# Altium integrated library ON Semi Signal Management Digital POTs.IntLib: 284 symbols (part 5 of 11)
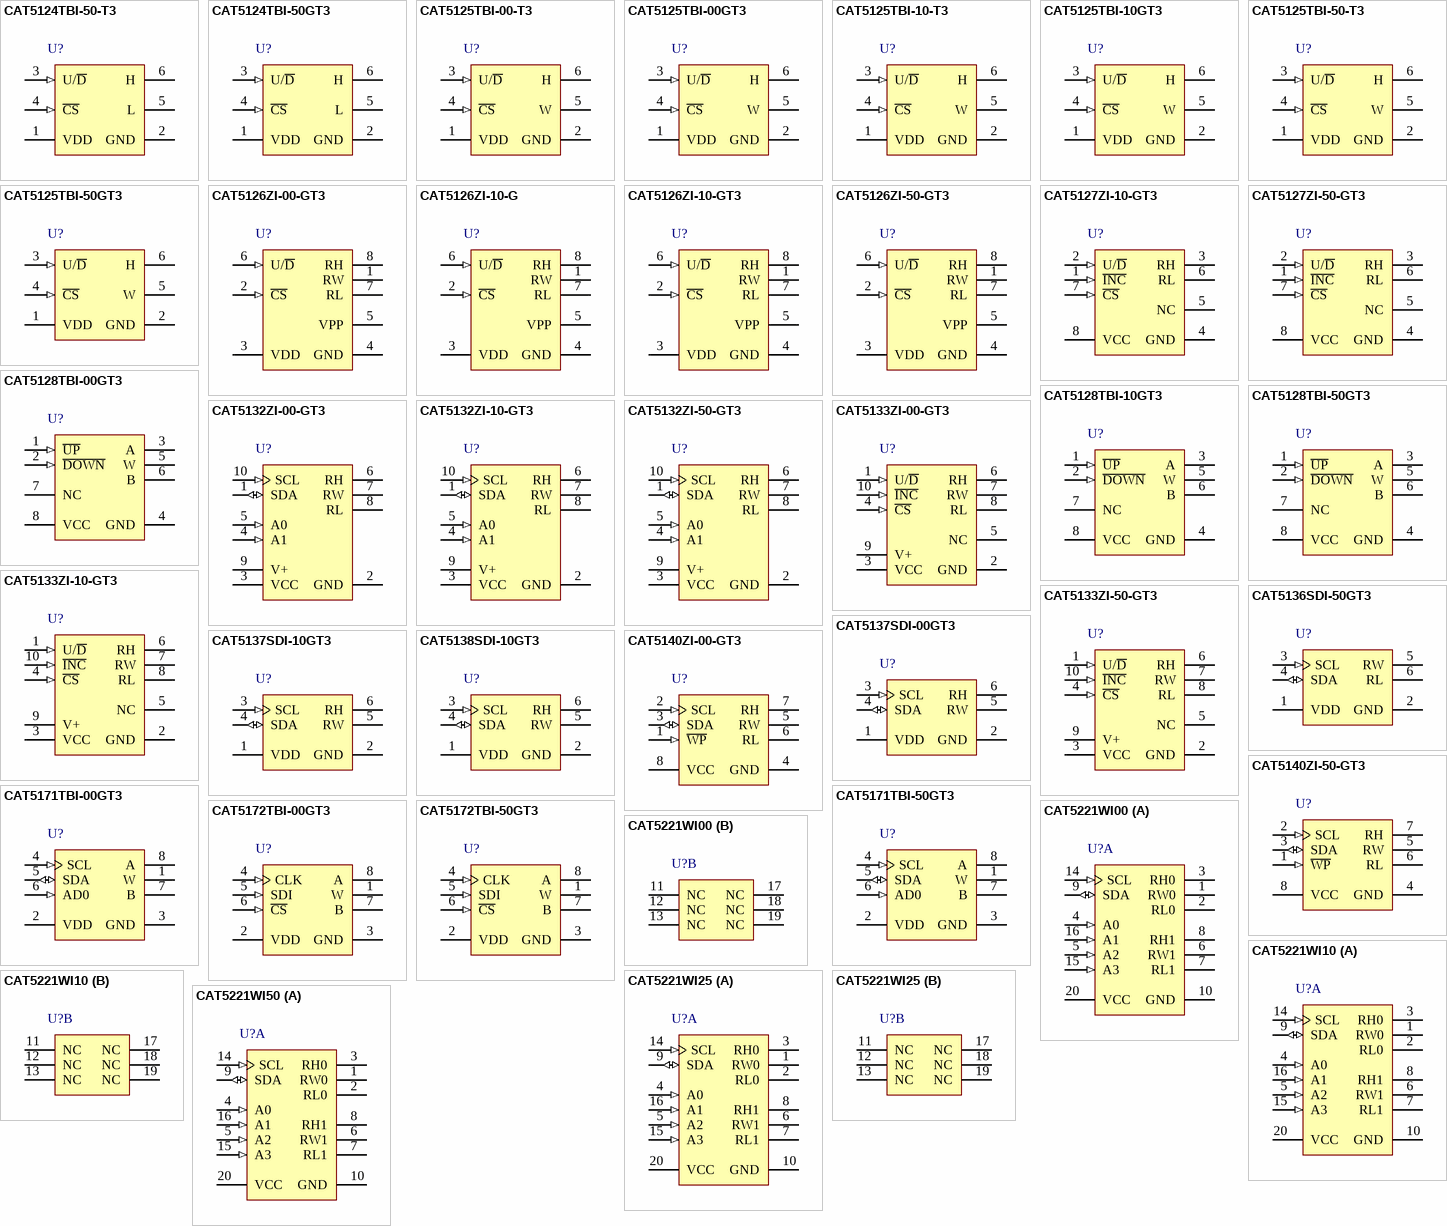
[diagram p13: symbols CAT5124TBI-50-T3 to CAT5221WI50]

## CAT5126ZI-10-G
designator U?
One-Time Digital 32 Tap Potentiometer (POT), -40 to 85 degC, 8-Pin MSOP, Pb-Free, Tube; Manufacturer: On Semiconductor; PartNumber: CAT5126ZI-10-G; # of Pots: 1; # of Taps: 32; Control Interface: Up/Down; VDD Max (V): 5.5; DatasheetVersion: Rev. 4; PackageVersion: Rev. O, 12/2008; PackageReference: MSOP-8-846AD-01_O; PackageDescription: 8-Pin Small Outline Package, Body 3 x 3 mm, Pitch 0.65 mm; Supplier 1: Mouser; Supplier Part Number 1: 698-CAT5126ZI-10-G; Packing: Tube; RoHS: TRUE; Type: Potentiometer; Mounting Technology: Surface Mount; Code_JEDEC: MO-187; ComponentLink1Description: Manufacturer URL; ComponentLink1URL: http://www.onsemi.com/; ComponentLink2Description: Datasheet; ComponentLink2URL: http://www.onsemi.com/pub_link/Collateral/CAT5126-D.PDF; ComponentLink3Description: Package Specification; ComponentLink3URL: http://www.onsemi.com/pub_link/Collateral/846AD.PDF
footprint ONSC-MSOP-8-846AD-01_N (SOP, 8-Leads, Body 3.1x3.1mm, Pitch 0.65mm, IPC Medium Density)
footprint ONSC-MSOP-8-846AD-01_L (SOP, 8-Leads, Body 3.1x3.1mm, Pitch 0.65mm, IPC High Density)
footprint ONSC-MSOP-8-846AD-01_M (SOP, 8-Leads, Body 3.1x3.1mm, Pitch 0.65mm, IPC Low Density)
pins: 1 RW "Wiper Connection", 2 ~{CS} (in) "Chip-Select Input. A high-to-low C\S\ transition determines the mode: increment if U/D\ is high, or decrement if U/D\ is low. C\S\ is also used for one-time programming (see the One-Time Programming section).", 3 VDD (power) "Power?Supply Voltage", 4 GND (power) "Ground", 5 VPP "Programming Voltage for One-Time Programming. Connect VPP to 10 V supply when one-time programming the device. For normal operation, connect to ground or let float.", 6 U/~{D} (in) "Up/Down Control Input. With C\S\ low, a low-to-high transition increments or decrements the wiper position.", 7 RL "Low Terminal of Resistor", 8 RH "High Terminal of Resistor"

## CAT5126ZI-10-GT3
designator U?
One-Time Digital 32 Tap Potentiometer (POT), -40 to 85 degC, 8-Pin MSOP, Pb-Free, Tape and Reel; Manufacturer: On Semiconductor; PartNumber: CAT5126ZI-10-GT3; # of Pots: 1; # of Taps: 32; Control Interface: Up/Down; VDD Max (V): 5.5; DatasheetVersion: Rev. 4; PackageVersion: Rev. O, 12/2008; PackageReference: MSOP-8-846AD-01_O; PackageDescription: 8-Pin Small Outline Package, Body 3 x 3 mm, Pitch 0.65 mm; Supplier 1: Digi-Key; Supplier Part Number 1: CAT5126ZI-10-GT3-ND; Supplier 2: Mouser; Supplier Part Number 2: 698-CAT5126ZI-10-GT3; Packing: Tape and Reel; RoHS: TRUE; Type: Potentiometer; Mounting Technology: Surface Mount; Code_JEDEC: MO-187; ComponentLink1Description: Manufacturer URL; ComponentLink1URL: http://www.onsemi.com/; ComponentLink2Description: Datasheet; ComponentLink2URL: http://www.onsemi.com/pub_link/Collateral/CAT5126-D.PDF; ComponentLink3Description: Package Specification; ComponentLink3URL: http://www.onsemi.com/pub_link/Collateral/846AD.PDF
footprint ONSC-MSOP-8-846AD-01_N (SOP, 8-Leads, Body 3.1x3.1mm, Pitch 0.65mm, IPC Medium Density)
footprint ONSC-MSOP-8-846AD-01_L (SOP, 8-Leads, Body 3.1x3.1mm, Pitch 0.65mm, IPC High Density)
footprint ONSC-MSOP-8-846AD-01_M (SOP, 8-Leads, Body 3.1x3.1mm, Pitch 0.65mm, IPC Low Density)
pins: 1 RW "Wiper Connection", 2 ~{CS} (in) "Chip-Select Input. A high-to-low C\S\ transition determines the mode: increment if U/D\ is high, or decrement if U/D\ is low. C\S\ is also used for one-time programming (see the One-Time Programming section).", 3 VDD (power) "Power?Supply Voltage", 4 GND (power) "Ground", 5 VPP "Programming Voltage for One-Time Programming. Connect VPP to 10 V supply when one-time programming the device. For normal operation, connect to ground or let float.", 6 U/~{D} (in) "Up/Down Control Input. With C\S\ low, a low-to-high transition increments or decrements the wiper position.", 7 RL "Low Terminal of Resistor", 8 RH "High Terminal of Resistor"

## CAT5126ZI-50-GT3
designator U?
One-Time Digital 32 Tap Potentiometer (POT), -40 to 85 degC, 8-Pin MSOP, Pb-Free, Tape and Reel; Manufacturer: On Semiconductor; PartNumber: CAT5126ZI-50-GT3; # of Pots: 1; # of Taps: 32; Control Interface: Up/Down; VDD Max (V): 5.5; DatasheetVersion: Rev. 4; PackageVersion: Rev. O, 12/2008; PackageReference: MSOP-8-846AD-01_O; PackageDescription: 8-Pin Small Outline Package, Body 3 x 3 mm, Pitch 0.65 mm; Supplier 1: Digi-Key; Supplier Part Number 1: CAT5126ZI-50-GT3-ND; Supplier 2: Mouser; Supplier Part Number 2: 698-CAT5126ZI-50-G; Packing: Tape and Reel; RoHS: TRUE; Type: Potentiometer; Mounting Technology: Surface Mount; Code_JEDEC: MO-187; ComponentLink1Description: Manufacturer URL; ComponentLink1URL: http://www.onsemi.com/; ComponentLink2Description: Datasheet; ComponentLink2URL: http://www.onsemi.com/pub_link/Collateral/CAT5126-D.PDF; ComponentLink3Description: Package Specification; ComponentLink3URL: http://www.onsemi.com/pub_link/Collateral/846AD.PDF
footprint ONSC-MSOP-8-846AD-01_N (SOP, 8-Leads, Body 3.1x3.1mm, Pitch 0.65mm, IPC Medium Density)
footprint ONSC-MSOP-8-846AD-01_L (SOP, 8-Leads, Body 3.1x3.1mm, Pitch 0.65mm, IPC High Density)
footprint ONSC-MSOP-8-846AD-01_M (SOP, 8-Leads, Body 3.1x3.1mm, Pitch 0.65mm, IPC Low Density)
pins: 1 RW "Wiper Connection", 2 ~{CS} (in) "Chip-Select Input. A high-to-low C\S\ transition determines the mode: increment if U/D\ is high, or decrement if U/D\ is low. C\S\ is also used for one-time programming (see the One-Time Programming section).", 3 VDD (power) "Power?Supply Voltage", 4 GND (power) "Ground", 5 VPP "Programming Voltage for One-Time Programming. Connect VPP to 10 V supply when one-time programming the device. For normal operation, connect to ground or let float.", 6 U/~{D} (in) "Up/Down Control Input. With C\S\ low, a low-to-high transition increments or decrements the wiper position.", 7 RL "Low Terminal of Resistor", 8 RH "High Terminal of Resistor"

## CAT5127ZI-10-GT3
designator U?
32 Tap Digital Potentiometer (POT), -40 to 85 degC, 8-Pin MSOP, Pb-Free, Tape and Reel; Manufacturer: On Semiconductor; PartNumber: CAT5127ZI-10-GT3; # of Pots: 1; # of Taps: 32; Control Interface: Up/Down; VDD Max (V): 5.5; DatasheetVersion: Rev. 7; PackageVersion: Rev. O, 12/2008; PackageReference: MSOP-8-846AD-01_O; PackageDescription: 8-Pin Small Outline Package, Body 3 x 3 mm, Pitch 0.65 mm; Supplier 1: Digi-Key; Supplier Part Number 1: CAT5127ZI-10-GT3-ND; Supplier 2: Newark; Supplier Part Number 2: 08R5289; Supplier 3: Mouser; Supplier Part Number 3: 698-CAT5127ZI-10-G; Packing: Tape and Reel; RoHS: TRUE; Type: Potentiometer; Mounting Technology: Surface Mount; Code_JEDEC: MO-187; ComponentLink1Description: Manufacturer URL; ComponentLink1URL: http://www.onsemi.com/; ComponentLink2Description: Datasheet; ComponentLink2URL: http://www.onsemi.com/pub_link/Collateral/CAT5127-D.PDF; ComponentLink3Description: Package Specification; ComponentLink3URL: http://www.onsemi.com/pub_link/Collateral/846AD.PDF
footprint ONSC-MSOP-8-846AD-01_N (SOP, 8-Leads, Body 3.1x3.1mm, Pitch 0.65mm, IPC Medium Density)
footprint ONSC-MSOP-8-846AD-01_L (SOP, 8-Leads, Body 3.1x3.1mm, Pitch 0.65mm, IPC High Density)
footprint ONSC-MSOP-8-846AD-01_M (SOP, 8-Leads, Body 3.1x3.1mm, Pitch 0.65mm, IPC Low Density)
pins: 1 ~{INC} (in) "Increment Control", 2 U/~{D} (in) "Up/Down Control", 3 RH "Potentiometer High Terminal", 4 GND (power) "Ground", 5 NC "No Connect", 6 RL "Potentiometer Low Terminal", 7 ~{CS} (in) "Chip Select", 8 VCC (power) "Supply Voltage"

## CAT5127ZI-50-GT3
designator U?
32 Tap Digital Potentiometer (POT), -40 to 85 degC, 8-Pin MSOP, Pb-Free, Tape and Reel; Manufacturer: On Semiconductor; PartNumber: CAT5127ZI-50-GT3; # of Pots: 1; # of Taps: 32; Control Interface: Up/Down; VDD Max (V): 5.5; DatasheetVersion: Rev. 7; PackageVersion: Rev. O, 12/2008; PackageReference: MSOP-8-846AD-01_O; PackageDescription: 8-Pin Small Outline Package, Body 3 x 3 mm, Pitch 0.65 mm; Supplier 1: Digi-Key; Supplier Part Number 1: CAT5127ZI-50-GT3-ND; Supplier 2: Mouser; Supplier Part Number 2: 863-CAT5127ZI-50-GT3; Packing: Tape and Reel; RoHS: TRUE; Type: Potentiometer; Mounting Technology: Surface Mount; Code_JEDEC: MO-187; ComponentLink1Description: Manufacturer URL; ComponentLink1URL: http://www.onsemi.com/; ComponentLink2Description: Datasheet; ComponentLink2URL: http://www.onsemi.com/pub_link/Collateral/CAT5127-D.PDF; ComponentLink3Description: Package Specification; ComponentLink3URL: http://www.onsemi.com/pub_link/Collateral/846AD.PDF
footprint ONSC-MSOP-8-846AD-01_N (SOP, 8-Leads, Body 3.1x3.1mm, Pitch 0.65mm, IPC Medium Density)
footprint ONSC-MSOP-8-846AD-01_L (SOP, 8-Leads, Body 3.1x3.1mm, Pitch 0.65mm, IPC High Density)
footprint ONSC-MSOP-8-846AD-01_M (SOP, 8-Leads, Body 3.1x3.1mm, Pitch 0.65mm, IPC Low Density)
pins: 1 ~{INC} (in) "Increment Control", 2 U/~{D} (in) "Up/Down Control", 3 RH "Potentiometer High Terminal", 4 GND (power) "Ground", 5 NC "No Connect", 6 RL "Potentiometer Low Terminal", 7 ~{CS} (in) "Chip Select", 8 VCC (power) "Supply Voltage"

## CAT5128TBI-00GT3
designator U?
32 Tap Digital Up / Down Control Potentiometer (POT), -40 to 85 degC, 8-Pin SOT23, Pb-Free, Tape and Reel; Manufacturer: On Semiconductor; PartNumber: CAT5128TBI-00GT3; # of Pots: 1; # of Taps: 32; VDD Max (V): 5.5; DatasheetVersion: Rev. 4; PackageVersion: Rev. A, 03/2009; PackageReference: SOT23-8-527AK-01; PackageDescription: 8-Pin Small Outline Transistor, Body 2.9 x 1.6 mm, Pitch 0.65 mm; Supplier 1: Digi-Key; Supplier Part Number 1: CAT5128TBI-00GT3-ND; Supplier 2: Mouser; Supplier Part Number 2: 863-CAT5128TBI-00GT3; Control Interface: Up/Down; Packing: Tape and Reel; RoHS: TRUE; Type: Potentiometer; Mounting Technology: Surface Mount; Code_JEDEC: MO-178; ComponentLink1Description: Manufacturer URL; ComponentLink1URL: http://www.onsemi.com/; ComponentLink2Description: Datasheet; ComponentLink2URL: http://www.onsemi.com/pub_link/Collateral/CAT5128-D.PDF; ComponentLink3Description: Package Specification; ComponentLink3URL: http://www.onsemi.com/pub_link/Collateral/527AK.PDF
footprint ONSC-SOT23-8-527AK-01_N (SOT23, 8-Leads, Body 2.9x1.6mm, Pitch 0.65mm, IPC Medium Density)
footprint ONSC-SOT23-8-527AK-01_L (SOT23, 8-Leads, Body 2.9x1.6mm, Pitch 0.65mm, IPC High Density)
footprint ONSC-SOT23-8-527AK-01_M (SOT23, 8-Leads, Body 2.9x1.6mm, Pitch 0.65mm, IPC Low Density)
pins: 1 ~{UP} (in) "Step-Up Control", 2 ~{DOWN} (in) "Step-Down Control", 3 A "Potentiometer High Terminal", 4 GND (power) "Ground", 5 W "Wiper Terminal", 6 B "Potentiometer Low Terminal", 7 NC "Not Connected", 8 VCC (power) "Supply Voltage"

## CAT5128TBI-10GT3
designator U?
32 Tap Digital Up / Down Control Potentiometer (POT), -40 to 85 degC, 8-Pin SOT23, Pb-Free, Tape and Reel; Manufacturer: On Semiconductor; PartNumber: CAT5128TBI-10GT3; # of Pots: 1; # of Taps: 32; VDD Max (V): 5.5; DatasheetVersion: Rev. 4; PackageVersion: Rev. A, 03/2009; PackageReference: SOT23-8-527AK-01; PackageDescription: 8-Pin Small Outline Transistor, Body 2.9 x 1.6 mm, Pitch 0.65 mm; Supplier 1: Digi-Key; Supplier Part Number 1: CAT5128TBI-10GT3CT-ND; Supplier 2: Digi-Key; Supplier Part Number 2: CAT5128TBI-10GT3DKR-ND; Supplier 3: Mouser; Supplier Part Number 3: 698-CAT5128TBI-10GT3; Control Interface: Up/Down; Packing: Tape and Reel; RoHS: TRUE; Type: Potentiometer; Mounting Technology: Surface Mount; Code_JEDEC: MO-178; ComponentLink1Description: Manufacturer URL; ComponentLink1URL: http://www.onsemi.com/; ComponentLink2Description: Datasheet; ComponentLink2URL: http://www.onsemi.com/pub_link/Collateral/CAT5128-D.PDF; ComponentLink3Description: Package Specification; ComponentLink3URL: http://www.onsemi.com/pub_link/Collateral/527AK.PDF
footprint ONSC-SOT23-8-527AK-01_N (SOT23, 8-Leads, Body 2.9x1.6mm, Pitch 0.65mm, IPC Medium Density)
footprint ONSC-SOT23-8-527AK-01_L (SOT23, 8-Leads, Body 2.9x1.6mm, Pitch 0.65mm, IPC High Density)
footprint ONSC-SOT23-8-527AK-01_M (SOT23, 8-Leads, Body 2.9x1.6mm, Pitch 0.65mm, IPC Low Density)
pins: 1 ~{UP} (in) "Step-Up Control", 2 ~{DOWN} (in) "Step-Down Control", 3 A "Potentiometer High Terminal", 4 GND (power) "Ground", 5 W "Wiper Terminal", 6 B "Potentiometer Low Terminal", 7 NC "Not Connected", 8 VCC (power) "Supply Voltage"

## CAT5128TBI-50GT3
designator U?
32 Tap Digital Up / Down Control Potentiometer (POT), -40 to 85 degC, 8-Pin SOT23, Pb-Free, Tape and Reel; Manufacturer: On Semiconductor; PartNumber: CAT5128TBI-50GT3; # of Pots: 1; # of Taps: 32; VDD Max (V): 5.5; DatasheetVersion: Rev. 4; PackageVersion: Rev. A, 03/2009; PackageReference: SOT23-8-527AK-01; PackageDescription: 8-Pin Small Outline Transistor, Body 2.9 x 1.6 mm, Pitch 0.65 mm; Supplier 1: Digi-Key; Supplier Part Number 1: CAT5128TBI-50GT3-ND; Supplier 2: Mouser; Supplier Part Number 2: 863-CAT5128TBI-50GT3; Control Interface: Up/Down; Packing: Tape and Reel; RoHS: TRUE; Type: Potentiometer; Mounting Technology: Surface Mount; Code_JEDEC: MO-178; ComponentLink1Description: Manufacturer URL; ComponentLink1URL: http://www.onsemi.com/; ComponentLink2Description: Datasheet; ComponentLink2URL: http://www.onsemi.com/pub_link/Collateral/CAT5128-D.PDF; ComponentLink3Description: Package Specification; ComponentLink3URL: http://www.onsemi.com/pub_link/Collateral/527AK.PDF
footprint ONSC-SOT23-8-527AK-01_N (SOT23, 8-Leads, Body 2.9x1.6mm, Pitch 0.65mm, IPC Medium Density)
footprint ONSC-SOT23-8-527AK-01_L (SOT23, 8-Leads, Body 2.9x1.6mm, Pitch 0.65mm, IPC High Density)
footprint ONSC-SOT23-8-527AK-01_M (SOT23, 8-Leads, Body 2.9x1.6mm, Pitch 0.65mm, IPC Low Density)
pins: 1 ~{UP} (in) "Step-Up Control", 2 ~{DOWN} (in) "Step-Down Control", 3 A "Potentiometer High Terminal", 4 GND (power) "Ground", 5 W "Wiper Terminal", 6 B "Potentiometer Low Terminal", 7 NC "Not Connected", 8 VCC (power) "Supply Voltage"

## CAT5132ZI-00-GT3
designator U?
16 Volt Digital Potentiometer (POT) with 128 Tap and I2C Interface, -40 to 85 degC, 10-Pin MSOP, Pb-Free, Tape and Reel; Manufacturer: On Semiconductor; PartNumber: CAT5132ZI-00-GT3; # of Pots: 1; # of Taps: 128; VDD Max (V): 5.5; DatasheetVersion: Rev. 7; PackageVersion: Rev. O, 12/2008; PackageReference: MSOP-10-846AE-01; PackageDescription: 10-Pin Small Outline Package, Body 3 x 3 mm, Pitch 0.5 mm; Supplier 1: Digi-Key; Supplier Part Number 1: CAT5132ZI-00-GT3TR-ND; Supplier 2: Digi-Key; Supplier Part Number 2: CAT5132ZI-00-GT3CT-ND; Supplier 3: Digi-Key; Supplier Part Number 3: CAT5132ZI-00-GT3DKR-ND; Supplier 4: Newark; Supplier Part Number 4: 08R5291; Supplier 5: Mouser; Supplier Part Number 5: 698-CAT5132ZI-00-GT3; Control Interface: I2C; Packing: Tape and Reel; RoHS: TRUE; Type: Potentiometer; Mounting Technology: Surface Mount; Code_JEDEC: MO-187; ComponentLink1Description: Manufacturer URL; ComponentLink1URL: http://www.onsemi.com/; ComponentLink2Description: Datasheet; ComponentLink2URL: http://www.onsemi.com/pub_link/Collateral/CAT5132-D.PDF; ComponentLink3Description: Package Specification; ComponentLink3URL: http://www.onsemi.com/pub_link/Collateral/846AE.PDF
footprint ONSC-MSOP-10-846AE-01_N (SOP, 10-Leads, Body 3.1x3.1mm, Pitch 0.5mm, IPC Medium Density)
footprint ONSC-MSOP-10-846AE-01_L (SOP, 10-Leads, Body 3.1x3.1mm, Pitch 0.5mm, IPC High Density)
footprint ONSC-MSOP-10-846AE-01_M (SOP, 10-Leads, Body 3.1x3.1mm, Pitch 0.5mm, IPC Low Density)
pins: 1 SDA (io) "Serial Data Input/Output ? Bidirectional Serial Data pin used to transfer data into and out of the CAT5132. This is an Open-Drain I/O and can be wire OR¡¯d with other Open-Drain (or Open Collector) I/Os.", 2 GND (power) "Ground", 3 VCC (power) "Digital Supply Voltage (2.7 V to 5.5 V)", 4 A1 (in) "Address Select Input to select slave address for I2C bus.", 5 A0 (in) "Address Select Input to select slave address for I2C bus.", 6 RH "High Reference Terminal for the potentiometer", 7 RW "Wiper Terminal for the potentiometer", 8 RL "Low Reference Terminal for the potentiometer", 9 V+ (power) "Analog Supply Voltage for the potentiometer (+8.0 V to 16.0 V)", 10 SCL (in) "Serial Bus Clock input for the I2C Serial Bus. This clock is used to clock all data transfers into and out of the CAT5132"

## CAT5132ZI-10-GT3
designator U?
16 Volt Digital Potentiometer (POT) with 128 Tap and I2C Interface, -40 to 85 degC, 10-Pin MSOP, Pb-Free, Tape and Reel; Manufacturer: On Semiconductor; PartNumber: CAT5132ZI-10-GT3; # of Pots: 1; # of Taps: 128; VDD Max (V): 5.5; DatasheetVersion: Rev. 7; PackageVersion: Rev. O, 12/2008; PackageReference: MSOP-10-846AE-01; PackageDescription: 10-Pin Small Outline Package, Body 3 x 3 mm, Pitch 0.5 mm; Supplier 1: Digi-Key; Supplier Part Number 1: CAT5132ZI-10-GT3-ND; Supplier 2: Farnell; Supplier Part Number 2: 1772382; Supplier 3: Newark; Supplier Part Number 3: 06R1234; Supplier 4: Mouser; Supplier Part Number 4: 698-CAT5132ZI-10-GT3; Control Interface: I2C; Packing: Tape and Reel; RoHS: TRUE; Type: Potentiometer; Mounting Technology: Surface Mount; Code_JEDEC: MO-187; ComponentLink1Description: Manufacturer URL; ComponentLink1URL: http://www.onsemi.com/; ComponentLink2Description: Datasheet; ComponentLink2URL: http://www.onsemi.com/pub_link/Collateral/CAT5132-D.PDF; ComponentLink3Description: Package Specification; ComponentLink3URL: http://www.onsemi.com/pub_link/Collateral/846AE.PDF
footprint ONSC-MSOP-10-846AE-01_N (SOP, 10-Leads, Body 3.1x3.1mm, Pitch 0.5mm, IPC Medium Density)
footprint ONSC-MSOP-10-846AE-01_L (SOP, 10-Leads, Body 3.1x3.1mm, Pitch 0.5mm, IPC High Density)
footprint ONSC-MSOP-10-846AE-01_M (SOP, 10-Leads, Body 3.1x3.1mm, Pitch 0.5mm, IPC Low Density)
pins: 1 SDA (io) "Serial Data Input/Output ? Bidirectional Serial Data pin used to transfer data into and out of the CAT5132. This is an Open-Drain I/O and can be wire OR¡¯d with other Open-Drain (or Open Collector) I/Os.", 2 GND (power) "Ground", 3 VCC (power) "Digital Supply Voltage (2.7 V to 5.5 V)", 4 A1 (in) "Address Select Input to select slave address for I2C bus.", 5 A0 (in) "Address Select Input to select slave address for I2C bus.", 6 RH "High Reference Terminal for the potentiometer", 7 RW "Wiper Terminal for the potentiometer", 8 RL "Low Reference Terminal for the potentiometer", 9 V+ (power) "Analog Supply Voltage for the potentiometer (+8.0 V to 16.0 V)", 10 SCL (in) "Serial Bus Clock input for the I2C Serial Bus. This clock is used to clock all data transfers into and out of the CAT5132"

## CAT5132ZI-50-GT3
designator U?
16 Volt Digital Potentiometer (POT) with 128 Tap and I2C Interface, -40 to 85 degC, 10-Pin MSOP, Pb-Free, Tape and Reel; Manufacturer: On Semiconductor; PartNumber: CAT5132ZI-50-GT3; # of Pots: 1; # of Taps: 128; VDD Max (V): 5.5; DatasheetVersion: Rev. 7; PackageVersion: Rev. O, 12/2008; PackageReference: MSOP-10-846AE-01; PackageDescription: 10-Pin Small Outline Package, Body 3 x 3 mm, Pitch 0.5 mm; Supplier 1: Digi-Key; Supplier Part Number 1: CAT5132ZI-50-GT3-ND; Supplier 2: Mouser; Supplier Part Number 2: 698-CAT5132ZI-50-GT3; Control Interface: I2C; Packing: Tape and Reel; RoHS: TRUE; Type: Potentiometer; Mounting Technology: Surface Mount; Code_JEDEC: MO-187; ComponentLink1Description: Manufacturer URL; ComponentLink1URL: http://www.onsemi.com/; ComponentLink2Description: Datasheet; ComponentLink2URL: http://www.onsemi.com/pub_link/Collateral/CAT5132-D.PDF; ComponentLink3Description: Package Specification; ComponentLink3URL: http://www.onsemi.com/pub_link/Collateral/846AE.PDF
footprint ONSC-MSOP-10-846AE-01_N (SOP, 10-Leads, Body 3.1x3.1mm, Pitch 0.5mm, IPC Medium Density)
footprint ONSC-MSOP-10-846AE-01_L (SOP, 10-Leads, Body 3.1x3.1mm, Pitch 0.5mm, IPC High Density)
footprint ONSC-MSOP-10-846AE-01_M (SOP, 10-Leads, Body 3.1x3.1mm, Pitch 0.5mm, IPC Low Density)
pins: 1 SDA (io) "Serial Data Input/Output ? Bidirectional Serial Data pin used to transfer data into and out of the CAT5132. This is an Open-Drain I/O and can be wire OR¡¯d with other Open-Drain (or Open Collector) I/Os.", 2 GND (power) "Ground", 3 VCC (power) "Digital Supply Voltage (2.7 V to 5.5 V)", 4 A1 (in) "Address Select Input to select slave address for I2C bus.", 5 A0 (in) "Address Select Input to select slave address for I2C bus.", 6 RH "High Reference Terminal for the potentiometer", 7 RW "Wiper Terminal for the potentiometer", 8 RL "Low Reference Terminal for the potentiometer", 9 V+ (power) "Analog Supply Voltage for the potentiometer (+8.0 V to 16.0 V)", 10 SCL (in) "Serial Bus Clock input for the I2C Serial Bus. This clock is used to clock all data transfers into and out of the CAT5132"

## CAT5133ZI-00-GT3
designator U?
16 Volt Digital Potentiometer (POT) with 128 Tap and an Increment Decrement Interface, -40 to 85 degC, 10-Pin MSOP, Pb-Free, Tape and Reel; Manufacturer: On Semiconductor; PartNumber: CAT5133ZI-00-GT3; # of Pots: 1; # of Taps: 128; Control Interface: Up/Down; VDD Max (V): 5.5; DatasheetVersion: Rev. 5; PackageVersion: Rev. O, 12/2008; PackageReference: MSOP-10-846AE-01; PackageDescription: 10-Pin Small Outline Package, Body 3 x 3 mm, Pitch 0.5 mm; Supplier 1: Mouser; Supplier Part Number 1: N/A; Packing: Tape and Reel; RoHS: TRUE; Type: Potentiometer; Mounting Technology: Surface Mount; Code_JEDEC: MO-187; ComponentLink1Description: Manufacturer URL; ComponentLink1URL: http://www.onsemi.com/; ComponentLink2Description: Datasheet; ComponentLink2URL: http://www.onsemi.com/pub_link/Collateral/CAT5133-D.PDF; ComponentLink3Description: Package Specification; ComponentLink3URL: http://www.onsemi.com/pub_link/Collateral/846AE.PDF
footprint ONSC-MSOP-10-846AE-01_N (SOP, 10-Leads, Body 3.1x3.1mm, Pitch 0.5mm, IPC Medium Density)
footprint ONSC-MSOP-10-846AE-01_L (SOP, 10-Leads, Body 3.1x3.1mm, Pitch 0.5mm, IPC High Density)
footprint ONSC-MSOP-10-846AE-01_M (SOP, 10-Leads, Body 3.1x3.1mm, Pitch 0.5mm, IPC Low Density)
pins: 1 U/~{D} (in) "Up/Down Data Input - Determines the direction of movement of the wiper", 2 GND (power) "Ground", 3 VCC (power) "Logic Supply Voltage (2.7 V to 5.5 V)", 4 ~{CS} (in) "Chip Select ? The chip is selected when the input is low.", 5 NC "No Connect", 6 RH "High Reference Terminal for the Potentiometer", 7 RW "Wiper Terminal for the Potentiometer", 8 RL "Low Reference Terminal for the Potentiometer", 9 V+ (power) "Analog Bias Voltage Input (+8.0 V to +16.0 V)", 10 ~{INC} (in) "Increment Input - Moves the wiper in the direction determined by the Up/Down input on each negative edge"

## CAT5133ZI-10-GT3
designator U?
16 Volt Digital Potentiometer (POT) with 128 Tap and an Increment Decrement Interface, -40 to 85 degC, 10-Pin MSOP, Pb-Free, Tape and Reel; Manufacturer: On Semiconductor; PartNumber: CAT5133ZI-10-GT3; # of Pots: 1; # of Taps: 128; Control Interface: Up/Down; VDD Max (V): 5.5; DatasheetVersion: Rev. 5; PackageVersion: Rev. O, 12/2008; PackageReference: MSOP-10-846AE-01; PackageDescription: 10-Pin Small Outline Package, Body 3 x 3 mm, Pitch 0.5 mm; Supplier 1: Digi-Key; Supplier Part Number 1: CAT5133ZI-10-GT3-ND; Supplier 2: Newark; Supplier Part Number 2: 06R1238; Supplier 3: Mouser; Supplier Part Number 3: 863-CAT5133ZI-10-GT3; Packing: Tape and Reel; RoHS: TRUE; Type: Potentiometer; Mounting Technology: Surface Mount; Code_JEDEC: MO-187; ComponentLink1Description: Manufacturer URL; ComponentLink1URL: http://www.onsemi.com/; ComponentLink2Description: Datasheet; ComponentLink2URL: http://www.onsemi.com/pub_link/Collateral/CAT5133-D.PDF; ComponentLink3Description: Package Specification; ComponentLink3URL: http://www.onsemi.com/pub_link/Collateral/846AE.PDF
footprint ONSC-MSOP-10-846AE-01_N (SOP, 10-Leads, Body 3.1x3.1mm, Pitch 0.5mm, IPC Medium Density)
footprint ONSC-MSOP-10-846AE-01_L (SOP, 10-Leads, Body 3.1x3.1mm, Pitch 0.5mm, IPC High Density)
footprint ONSC-MSOP-10-846AE-01_M (SOP, 10-Leads, Body 3.1x3.1mm, Pitch 0.5mm, IPC Low Density)
pins: 1 U/~{D} (in) "Up/Down Data Input - Determines the direction of movement of the wiper", 2 GND (power) "Ground", 3 VCC (power) "Logic Supply Voltage (2.7 V to 5.5 V)", 4 ~{CS} (in) "Chip Select ? The chip is selected when the input is low.", 5 NC "No Connect", 6 RH "High Reference Terminal for the Potentiometer", 7 RW "Wiper Terminal for the Potentiometer", 8 RL "Low Reference Terminal for the Potentiometer", 9 V+ (power) "Analog Bias Voltage Input (+8.0 V to +16.0 V)", 10 ~{INC} (in) "Increment Input - Moves the wiper in the direction determined by the Up/Down input on each negative edge"

## CAT5133ZI-50-GT3
designator U?
16 Volt Digital Potentiometer (POT) with 128 Tap and an Increment Decrement Interface, -40 to 85 degC, 10-Pin MSOP, Pb-Free, Tape and Reel; Manufacturer: On Semiconductor; PartNumber: CAT5133ZI-50-GT3; # of Pots: 1; # of Taps: 128; Control Interface: Up/Down; VDD Max (V): 5.5; DatasheetVersion: Rev. 5; PackageVersion: Rev. O, 12/2008; PackageReference: MSOP-10-846AE-01; PackageDescription: 10-Pin Small Outline Package, Body 3 x 3 mm, Pitch 0.5 mm; Supplier 1: Mouser; Supplier Part Number 1: N/A; Packing: Tape and Reel; RoHS: TRUE; Type: Potentiometer; Mounting Technology: Surface Mount; Code_JEDEC: MO-187; ComponentLink1Description: Manufacturer URL; ComponentLink1URL: http://www.onsemi.com/; ComponentLink2Description: Datasheet; ComponentLink2URL: http://www.onsemi.com/pub_link/Collateral/CAT5133-D.PDF; ComponentLink3Description: Package Specification; ComponentLink3URL: http://www.onsemi.com/pub_link/Collateral/846AE.PDF
footprint ONSC-MSOP-10-846AE-01_N (SOP, 10-Leads, Body 3.1x3.1mm, Pitch 0.5mm, IPC Medium Density)
footprint ONSC-MSOP-10-846AE-01_L (SOP, 10-Leads, Body 3.1x3.1mm, Pitch 0.5mm, IPC High Density)
footprint ONSC-MSOP-10-846AE-01_M (SOP, 10-Leads, Body 3.1x3.1mm, Pitch 0.5mm, IPC Low Density)
pins: 1 U/~{D} (in) "Up/Down Data Input - Determines the direction of movement of the wiper", 2 GND (power) "Ground", 3 VCC (power) "Logic Supply Voltage (2.7 V to 5.5 V)", 4 ~{CS} (in) "Chip Select ? The chip is selected when the input is low.", 5 NC "No Connect", 6 RH "High Reference Terminal for the Potentiometer", 7 RW "Wiper Terminal for the Potentiometer", 8 RL "Low Reference Terminal for the Potentiometer", 9 V+ (power) "Analog Bias Voltage Input (+8.0 V to +16.0 V)", 10 ~{INC} (in) "Increment Input - Moves the wiper in the direction determined by the Up/Down input on each negative edge"

## CAT5136SDI-50GT3
designator U?
Digital Potentiometer (POT) with 128 Tap and I2C Interface, -40 to 85 degC, 6-Pin SC70, Pb-Free, Tape and Reel; Manufacturer: On Semiconductor; PartNumber: CAT5136SDI-50GT3; # of Pots: 1; # of Taps: 128; VDD Max (V): 5.5; DatasheetVersion: Rev. 1; PackageVersion: Rev. A, 07/2010; PackageReference: SC70-6-419AD-01; PackageDescription: 6-Pin Small Outline Transistor, Body 2 x 1.25 mm, Pitch 0.65 mm; Supplier 1: Digi-Key; Supplier Part Number 1: CAT5136SDI-50GT3OSTR-ND; Supplier 2: Digi-Key; Supplier Part Number 2: CAT5136SDI-50GT3OSCT-ND; Supplier 3: Digi-Key; Supplier Part Number 3: CAT5136SDI-50GT3OSDKR-ND; Supplier 4: Farnell; Supplier Part Number 4: 2216974; Supplier 5: Newark; Supplier Part Number 5: 45W6212; Supplier 6: Mouser; Supplier Part Number 6: 863-CAT5136SDI-50GT3; Control Interface: I2C; Packing: Tape and Reel; RoHS: TRUE; Type: Potentiometer; Mounting Technology: Surface Mount; Code_JEDEC: MO-203; ComponentLink1Description: Manufacturer URL; ComponentLink1URL: http://www.onsemi.com/; ComponentLink2Description: Datasheet; ComponentLink2URL: http://www.onsemi.com/pub_link/Collateral/CAT5136-D.PDF; ComponentLink3Description: Package Specification; ComponentLink3URL: http://www.onsemi.com/pub_link/Collateral/419AD.PDF
footprint ONSC-SC70-6-419AD-01_N (SOT23, 6-Leads, Body 2.2x1.35mm, Pitch 0.65mm, IPC Medium Density)
footprint ONSC-SC70-6-419AD-01_L (SOT23, 6-Leads, Body 2.2x1.35mm, Pitch 0.65mm, IPC High Density)
footprint ONSC-SC70-6-419AD-01_M (SOT23, 6-Leads, Body 2.2x1.35mm, Pitch 0.65mm, IPC Low Density)
pins: 1 VDD (power) "Digital Supply Voltage (2.7 V to 5.5 V)", 2 GND (power) "Ground", 3 SCL (in) "Serial Bus Clock input for the I2C Serial Bus. This clock is used to clock all data transfers into and out of the CAT5136?8", 4 SDA (io) "Serial Data Input/Output ? Bidirectional Serial Data pin used to transfer data into and out of the CAT5136?8. This is an Open-Drain I/O and can be wire OR’d with other Open-Drain (or Open Collector) I/Os.", 5 RW "Wiper Terminal for the potentiometer", 6 RL "Low Reference Terminal for the potentiometer"

## CAT5137SDI-00GT3
designator U?
Digital Potentiometer (POT) with 128 Tap and I2C Interface, -40 to 85 degC, 6-Pin SC70, Pb-Free, Tape and Reel; Manufacturer: On Semiconductor; PartNumber: CAT5137SDI-00GT3; # of Pots: 1; # of Taps: 128; VDD Max (V): 5.5; DatasheetVersion: Rev. 1; PackageVersion: Rev. A, 07/2010; PackageReference: SC70-6-419AD-01; PackageDescription: 6-Pin Small Outline Transistor, Body 2 x 1.25 mm, Pitch 0.65 mm; Supplier 1: Digi-Key; Supplier Part Number 1: CAT5137SDI-00GT3OSTR-ND; Supplier 2: Digi-Key; Supplier Part Number 2: CAT5137SDI-00GT3OSCT-ND; Supplier 3: Digi-Key; Supplier Part Number 3: CAT5137SDI-00GT3OSDKR-ND; Supplier 4: Farnell; Supplier Part Number 4: 2216975; Supplier 5: Newark; Supplier Part Number 5: 45W6213; Supplier 6: Mouser; Supplier Part Number 6: 863-CAT5137SDI-00GT3; Control Interface: I2C; Packing: Tape and Reel; RoHS: TRUE; Type: Potentiometer; Mounting Technology: Surface Mount; Code_JEDEC: MO-203; ComponentLink1Description: Manufacturer URL; ComponentLink1URL: http://www.onsemi.com/; ComponentLink2Description: Datasheet; ComponentLink2URL: http://www.onsemi.com/pub_link/Collateral/CAT5136-D.PDF; ComponentLink3Description: Package Specification; ComponentLink3URL: http://www.onsemi.com/pub_link/Collateral/419AD.PDF
footprint ONSC-SC70-6-419AD-01_N (SOT23, 6-Leads, Body 2.2x1.35mm, Pitch 0.65mm, IPC Medium Density)
footprint ONSC-SC70-6-419AD-01_L (SOT23, 6-Leads, Body 2.2x1.35mm, Pitch 0.65mm, IPC High Density)
footprint ONSC-SC70-6-419AD-01_M (SOT23, 6-Leads, Body 2.2x1.35mm, Pitch 0.65mm, IPC Low Density)
pins: 1 VDD (power) "Digital Supply Voltage (2.7 V to 5.5 V)", 2 GND (power) "Ground", 3 SCL (in) "Serial Bus Clock input for the I2C Serial Bus. This clock is used to clock all data transfers into and out of the CAT5136-8", 4 SDA (io) "Serial Data Input/Output ? Bidirectional Serial Data pin used to transfer data into and out of the CAT5136?8. This is an Open-Drain I/O and can be wire OR抎 with other Open-Drain (or Open Collector) I/Os.", 5 RW "Wiper Terminal for the potentiometer", 6 RH "High Reference Terminal for the potentiometer"

## CAT5137SDI-10GT3
designator U?
Digital Potentiometer (POT) with 128 Tap and I2C Interface, -40 to 85 degC, 6-Pin SC70, Pb-Free, Tape and Reel; Manufacturer: On Semiconductor; PartNumber: CAT5137SDI-10GT3; # of Pots: 1; # of Taps: 128; VDD Max (V): 5.5; DatasheetVersion: Rev. 1; PackageVersion: Rev. A, 07/2010; PackageReference: SC70-6-419AD-01; PackageDescription: 6-Pin Small Outline Transistor, Body 2 x 1.25 mm, Pitch 0.65 mm; Supplier 1: Digi-Key; Supplier Part Number 1: CAT5137SDI-10GT3-ND; Supplier 2: Mouser; Supplier Part Number 2: 863-CAT5137SDI-10GT3; Control Interface: I2C; Packing: Tape and Reel; RoHS: TRUE; Type: Potentiometer; Mounting Technology: Surface Mount; Code_JEDEC: MO-203; ComponentLink1Description: Manufacturer URL; ComponentLink1URL: http://www.onsemi.com/; ComponentLink2Description: Datasheet; ComponentLink2URL: http://www.onsemi.com/pub_link/Collateral/CAT5136-D.PDF; ComponentLink3Description: Package Specification; ComponentLink3URL: http://www.onsemi.com/pub_link/Collateral/419AD.PDF
footprint ONSC-SC70-6-419AD-01_N (SOT23, 6-Leads, Body 2.2x1.35mm, Pitch 0.65mm, IPC Medium Density)
footprint ONSC-SC70-6-419AD-01_L (SOT23, 6-Leads, Body 2.2x1.35mm, Pitch 0.65mm, IPC High Density)
footprint ONSC-SC70-6-419AD-01_M (SOT23, 6-Leads, Body 2.2x1.35mm, Pitch 0.65mm, IPC Low Density)
pins: 1 VDD (power) "Digital Supply Voltage (2.7 V to 5.5 V)", 2 GND (power) "Ground", 3 SCL (in) "Serial Bus Clock input for the I2C Serial Bus. This clock is used to clock all data transfers into and out of the CAT5136-8", 4 SDA (io) "Serial Data Input/Output ? Bidirectional Serial Data pin used to transfer data into and out of the CAT5136?8. This is an Open-Drain I/O and can be wire OR抎 with other Open-Drain (or Open Collector) I/Os.", 5 RW "Wiper Terminal for the potentiometer", 6 RH "High Reference Terminal for the potentiometer"

## CAT5138SDI-10GT3
designator U?
Digital Potentiometer (POT) with 128 Tap and I2C Interface, -40 to 85 degC, 6-Pin SC70, Pb-Free, Tape and Reel; Manufacturer: On Semiconductor; PartNumber: CAT5138SDI-10GT3; # of Pots: 1; # of Taps: 128; VDD Max (V): 5.5; DatasheetVersion: Rev. 1; PackageVersion: Rev. A, 07/2010; PackageReference: SC70-6-419AD-01; PackageDescription: 6-Pin Small Outline Transistor, Body 2 x 1.25 mm, Pitch 0.65 mm; Supplier 1: Digi-Key; Supplier Part Number 1: CAT5138SDI-10GT3OSTR-ND; Supplier 2: Digi-Key; Supplier Part Number 2: CAT5138SDI-10GT3OSCT-ND; Supplier 3: Digi-Key; Supplier Part Number 3: CAT5138SDI-10GT3OSDKR-ND; Supplier 4: Farnell; Supplier Part Number 4: 2216976; Supplier 5: Newark; Supplier Part Number 5: 45W6214; Supplier 6: Mouser; Supplier Part Number 6: 863-CAT5138SDI-10GT3; Control Interface: I2C; Packing: Tape and Reel; RoHS: TRUE; Type: Potentiometer; Mounting Technology: Surface Mount; Code_JEDEC: MO-203; ComponentLink1Description: Manufacturer URL; ComponentLink1URL: http://www.onsemi.com/; ComponentLink2Description: Datasheet; ComponentLink2URL: http://www.onsemi.com/pub_link/Collateral/CAT5136-D.PDF; ComponentLink3Description: Package Specification; ComponentLink3URL: http://www.onsemi.com/pub_link/Collateral/419AD.PDF
footprint ONSC-SC70-6-419AD-01_N (SOT23, 6-Leads, Body 2.2x1.35mm, Pitch 0.65mm, IPC Medium Density)
footprint ONSC-SC70-6-419AD-01_L (SOT23, 6-Leads, Body 2.2x1.35mm, Pitch 0.65mm, IPC High Density)
footprint ONSC-SC70-6-419AD-01_M (SOT23, 6-Leads, Body 2.2x1.35mm, Pitch 0.65mm, IPC Low Density)
pins: 1 VDD (power) "Digital Supply Voltage (2.7 V to 5.5 V)", 2 GND (power) "Ground", 3 SCL (in) "Serial Bus Clock input for the I2C Serial Bus. This clock is used to clock all data transfers into and out of the CAT5136-8", 4 SDA (io) "Serial Data Input/Output ? Bidirectional Serial Data pin used to transfer data into and out of the CAT5136?8. This is an Open-Drain I/O and can be wire OR抎 with other Open-Drain (or Open Collector) I/Os.", 5 RW "Wiper Terminal for the potentiometer", 6 RH "High Reference Terminal for the potentiometer"

## CAT5140ZI-00-GT3
designator U?
Single Channel 256 Tap Digital Potentiometer (POT) with Integrated EEPROM and I2C Control, -40 to 85 degC, 8-Pin MSOP, Pb-Free, Tape and Reel; Manufacturer: On Semiconductor; PartNumber: CAT5140ZI-00-GT3; # of Pots: 1; # of Taps: 256; VDD Max (V): 5.5; DatasheetVersion: Rev. 4; PackageVersion: Rev. O, 12/2008; PackageReference: MSOP-8-846AD-01_O; PackageDescription: 8-Pin Small Outline Package, Body 3 x 3 mm, Pitch 0.65 mm; Supplier 1: Digi-Key; Supplier Part Number 1: CAT5140ZI-00-GT3-ND; Supplier 2: Mouser; Supplier Part Number 2: 863-CAT5140ZI-00-GT3; Control Interface: I2C; Packing: Tape and Reel; RoHS: TRUE; Type: Potentiometer; Mounting Technology: Surface Mount; Code_JEDEC: MO-187; ComponentLink1Description: Manufacturer URL; ComponentLink1URL: http://www.onsemi.com/; ComponentLink2Description: Datasheet; ComponentLink2URL: http://www.onsemi.com/pub_link/Collateral/CAT5140-D.PDF; ComponentLink3Description: Package Specification; ComponentLink3URL: http://www.onsemi.com/pub_link/Collateral/846AD.PDF
footprint ONSC-MSOP-8-846AD-01_N (SOP, 8-Leads, Body 3.1x3.1mm, Pitch 0.65mm, IPC Medium Density)
footprint ONSC-MSOP-8-846AD-01_L (SOP, 8-Leads, Body 3.1x3.1mm, Pitch 0.65mm, IPC High Density)
footprint ONSC-MSOP-8-846AD-01_M (SOP, 8-Leads, Body 3.1x3.1mm, Pitch 0.65mm, IPC Low Density)
pins: 1 ~{WP} (in) "Memory Write Protect: Active Low", 2 SCL (in) "Serial Clock", 3 SDA (io) "Serial Data", 4 GND (power) "Ground", 5 RW "Wiper Terminal", 6 RL "Potentiometer Low Terminal", 7 RH "Potentiometer High Terminal", 8 VCC (power) "Supply Voltage"

## CAT5140ZI-50-GT3
designator U?
Single Channel 256 Tap Digital Potentiometer (POT) with Integrated EEPROM and I2C Control, -40 to 85 degC, 8-Pin MSOP, Pb-Free, Tape and Reel; Manufacturer: On Semiconductor; PartNumber: CAT5140ZI-50-GT3; # of Pots: 1; # of Taps: 256; VDD Max (V): 5.5; DatasheetVersion: Rev. 4; PackageVersion: Rev. O, 12/2008; PackageReference: MSOP-8-846AD-01_O; PackageDescription: 8-Pin Small Outline Package, Body 3 x 3 mm, Pitch 0.65 mm; Supplier 1: Digi-Key; Supplier Part Number 1: CAT5140ZI-50-GT3-ND; Supplier 2: Mouser; Supplier Part Number 2: 863-CAT5140ZI-50-GT3; Control Interface: I2C; Packing: Tape and Reel; RoHS: TRUE; Type: Potentiometer; Mounting Technology: Surface Mount; Code_JEDEC: MO-187; ComponentLink1Description: Manufacturer URL; ComponentLink1URL: http://www.onsemi.com/; ComponentLink2Description: Datasheet; ComponentLink2URL: http://www.onsemi.com/pub_link/Collateral/CAT5140-D.PDF; ComponentLink3Description: Package Specification; ComponentLink3URL: http://www.onsemi.com/pub_link/Collateral/846AD.PDF
footprint ONSC-MSOP-8-846AD-01_N (SOP, 8-Leads, Body 3.1x3.1mm, Pitch 0.65mm, IPC Medium Density)
footprint ONSC-MSOP-8-846AD-01_L (SOP, 8-Leads, Body 3.1x3.1mm, Pitch 0.65mm, IPC High Density)
footprint ONSC-MSOP-8-846AD-01_M (SOP, 8-Leads, Body 3.1x3.1mm, Pitch 0.65mm, IPC Low Density)
pins: 1 ~{WP} (in) "Memory Write Protect: Active Low", 2 SCL (in) "Serial Clock", 3 SDA (io) "Serial Data", 4 GND (power) "Ground", 5 RW "Wiper Terminal", 6 RL "Potentiometer Low Terminal", 7 RH "Potentiometer High Terminal", 8 VCC (power) "Supply Voltage"

## CAT5171TBI-00GT3
designator U?
256-Position I2C Compatible Digital Potentiometer (POT), -40 to 85 degC, 8-Pin SOT23, Pb-Free, Tape and Reel; Manufacturer: On Semiconductor; PartNumber: CAT5171TBI-00GT3; # of Pots: 1; # of Taps: 256; VDD Max (V): 5.5; DatasheetVersion: Rev. 2; PackageVersion: Rev. A, 03/2009; PackageReference: SOT23-8-527AK-01; PackageDescription: 8-Pin Small Outline Transistor, Body 2.9 x 1.6 mm, Pitch 0.65 mm; Supplier 1: Digi-Key; Supplier Part Number 1: CAT5171TBI-00GT3-ND; Supplier 2: Mouser; Supplier Part Number 2: 863-CAT5171TBI-00GT3; Control Interface: I2C; Packing: Tape and Reel; RoHS: TRUE; Type: Potentiometer; Mounting Technology: Surface Mount; Code_JEDEC: MO-178; ComponentLink1Description: Manufacturer URL; ComponentLink1URL: http://www.onsemi.com/; ComponentLink2Description: Datasheet; ComponentLink2URL: http://www.onsemi.com/pub_link/Collateral/CAT5171-D.PDF; ComponentLink3Description: Package Specification; ComponentLink3URL: http://www.onsemi.com/pub_link/Collateral/527AK.PDF
footprint ONSC-SOT23-8-527AK-01_N (SOT23, 8-Leads, Body 2.9x1.6mm, Pitch 0.65mm, IPC Medium Density)
footprint ONSC-SOT23-8-527AK-01_L (SOT23, 8-Leads, Body 2.9x1.6mm, Pitch 0.65mm, IPC High Density)
footprint ONSC-SOT23-8-527AK-01_M (SOT23, 8-Leads, Body 2.9x1.6mm, Pitch 0.65mm, IPC Low Density)
pins: 1 W "Resistor¡¯s Wiper Terminal", 2 VDD (power) "Positive Power Supply", 3 GND (power) "Digital Ground", 4 SCL (in) "Serial Clock Input", 5 SDA (io) "Serial Data Input", 6 AD0 (in) "I2C Address bit 0 input", 7 B "Bottom Terminal of resistive element", 8 A "Top Terminal of resistive element"

## CAT5171TBI-50GT3
designator U?
256-Position I2C Compatible Digital Potentiometer (POT), -40 to 85 degC, 8-Pin SOT23, Pb-Free, Tape and Reel; Manufacturer: On Semiconductor; PartNumber: CAT5171TBI-50GT3; # of Pots: 1; # of Taps: 256; VDD Max (V): 5.5; DatasheetVersion: Rev. 2; PackageVersion: Rev. A, 03/2009; PackageReference: SOT23-8-527AK-01; PackageDescription: 8-Pin Small Outline Transistor, Body 2.9 x 1.6 mm, Pitch 0.65 mm; Supplier 1: Digi-Key; Supplier Part Number 1: CAT5171TBI-50GT3-ND; Supplier 2: Mouser; Supplier Part Number 2: 863-CAT5171TBI-50GT3; Control Interface: I2C; Packing: Tape and Reel; RoHS: TRUE; Type: Potentiometer; Mounting Technology: Surface Mount; Code_JEDEC: MO-178; ComponentLink1Description: Manufacturer URL; ComponentLink1URL: http://www.onsemi.com/; ComponentLink2Description: Datasheet; ComponentLink2URL: http://www.onsemi.com/pub_link/Collateral/CAT5171-D.PDF; ComponentLink3Description: Package Specification; ComponentLink3URL: http://www.onsemi.com/pub_link/Collateral/527AK.PDF
footprint ONSC-SOT23-8-527AK-01_N (SOT23, 8-Leads, Body 2.9x1.6mm, Pitch 0.65mm, IPC Medium Density)
footprint ONSC-SOT23-8-527AK-01_L (SOT23, 8-Leads, Body 2.9x1.6mm, Pitch 0.65mm, IPC High Density)
footprint ONSC-SOT23-8-527AK-01_M (SOT23, 8-Leads, Body 2.9x1.6mm, Pitch 0.65mm, IPC Low Density)
pins: 1 W "Resistor¡¯s Wiper Terminal", 2 VDD (power) "Positive Power Supply", 3 GND (power) "Digital Ground", 4 SCL (in) "Serial Clock Input", 5 SDA (io) "Serial Data Input", 6 AD0 (in) "I2C Address bit 0 input", 7 B "Bottom Terminal of resistive element", 8 A "Top Terminal of resistive element"

## CAT5172TBI-00GT3
designator U?
256-Position SPI Compatible Digital Potentiometer (POT), -40 to 85 degC, 8-Pin SOT23, Pb-Free, Tape and Reel; Manufacturer: On Semiconductor; PartNumber: CAT5172TBI-00GT3; # of Pots: 1; # of Taps: 256; VDD Max (V): 5.5; DatasheetVersion: Rev. 1; PackageVersion: Rev. A, 03/2009; PackageReference: SOT23-8-527AK-01; PackageDescription: 8-Pin Small Outline Transistor, Body 2.9 x 1.6 mm, Pitch 0.65 mm; Supplier 1: Digi-Key; Supplier Part Number 1: CAT5172TBI-00GT3-ND; Supplier 2: Mouser; Supplier Part Number 2: 863-CAT5172TBI-00GT3; Control Interface: SPI; Packing: Tape and Reel; RoHS: TRUE; Type: Potentiometer; Mounting Technology: Surface Mount; Code_JEDEC: MO-178; ComponentLink1Description: Manufacturer URL; ComponentLink1URL: http://www.onsemi.com/; ComponentLink2Description: Datasheet; ComponentLink2URL: http://www.onsemi.com/pub_link/Collateral/CAT5172-D.PDF; ComponentLink3Description: Package Specification; ComponentLink3URL: http://www.onsemi.com/pub_link/Collateral/527AK.PDF
footprint ONSC-SOT23-8-527AK-01_N (SOT23, 8-Leads, Body 2.9x1.6mm, Pitch 0.65mm, IPC Medium Density)
footprint ONSC-SOT23-8-527AK-01_L (SOT23, 8-Leads, Body 2.9x1.6mm, Pitch 0.65mm, IPC High Density)
footprint ONSC-SOT23-8-527AK-01_M (SOT23, 8-Leads, Body 2.9x1.6mm, Pitch 0.65mm, IPC Low Density)
pins: 1 W "Resistor¡¯s Wiper Terminal.", 2 VDD (power) "Positive Power Supply.", 3 GND (power) "Digital Ground.", 4 CLK (in) "Serial Clock Input. Positive edge triggered.", 5 SDI (in) "Serial Data Input.", 6 ~{CS} (in) "Chip Select Input, Active Low. When C\S\ returns high, data will be loaded into the DAC register.", 7 B "Bottom Terminal of resistive element.", 8 A "Top Terminal of resistive element."

## CAT5172TBI-50GT3
designator U?
256-Position SPI Compatible Digital Potentiometer (POT), -40 to 85 degC, 8-Pin SOT23, Pb-Free, Tape and Reel; Manufacturer: On Semiconductor; PartNumber: CAT5172TBI-50GT3; # of Pots: 1; # of Taps: 256; VDD Max (V): 5.5; DatasheetVersion: Rev. 1; PackageVersion: Rev. A, 03/2009; PackageReference: SOT23-8-527AK-01; PackageDescription: 8-Pin Small Outline Transistor, Body 2.9 x 1.6 mm, Pitch 0.65 mm; Supplier 1: Digi-Key; Supplier Part Number 1: CAT5172TBI-50GT3-ND; Supplier 2: Mouser; Supplier Part Number 2: 863-CAT5172TBI-50GT3; Control Interface: SPI; Packing: Tape and Reel; RoHS: TRUE; Type: Potentiometer; Mounting Technology: Surface Mount; Code_JEDEC: MO-178; ComponentLink1Description: Manufacturer URL; ComponentLink1URL: http://www.onsemi.com/; ComponentLink2Description: Datasheet; ComponentLink2URL: http://www.onsemi.com/pub_link/Collateral/CAT5172-D.PDF; ComponentLink3Description: Package Specification; ComponentLink3URL: http://www.onsemi.com/pub_link/Collateral/527AK.PDF
footprint ONSC-SOT23-8-527AK-01_N (SOT23, 8-Leads, Body 2.9x1.6mm, Pitch 0.65mm, IPC Medium Density)
footprint ONSC-SOT23-8-527AK-01_L (SOT23, 8-Leads, Body 2.9x1.6mm, Pitch 0.65mm, IPC High Density)
footprint ONSC-SOT23-8-527AK-01_M (SOT23, 8-Leads, Body 2.9x1.6mm, Pitch 0.65mm, IPC Low Density)
pins: 1 W "Resistor¡¯s Wiper Terminal.", 2 VDD (power) "Positive Power Supply.", 3 GND (power) "Digital Ground.", 4 CLK (in) "Serial Clock Input. Positive edge triggered.", 5 SDI (in) "Serial Data Input.", 6 ~{CS} (in) "Chip Select Input, Active Low. When C\S\ returns high, data will be loaded into the DAC register.", 7 B "Bottom Terminal of resistive element.", 8 A "Top Terminal of resistive element."

## CAT5221WI00
designator U?
Dual Digital Potentiometer (POT) with 64 Tap and I2C Interface, -40 to 85 degC, 20-Pin SOIC, Pb-Free, Tube; Manufacturer: On Semiconductor; PartNumber: CAT5221WI00; # of Pots: 2; # of Taps: 64; VDD Max (V): 6; DatasheetVersion: Rev. 14; PackageVersion: Rev. O, 12/2008; PackageReference: SOIC-20-751BJ-01; PackageDescription: 20-Pin Small Outline Integrated Circuit, Body 12.8 x 7.5 mm, Pitch 1.27 mm; Control Interface: I2C; Packing: Tube; RoHS: TRUE; Type: Potentiometer; Mounting Technology: Surface Mount; Code_JEDEC: MS-013; ComponentLink1Description: Manufacturer URL; ComponentLink1URL: http://www.onsemi.com/; ComponentLink2Description: Datasheet; ComponentLink2URL: http://www.onsemi.cn/pub_link/Collateral/CAT5221-D.PDF; ComponentLink3Description: Package Specification; ComponentLink3URL: http://www.onsemi.cn/pub_link/Collateral/751BJ.PDF
footprint ONSC-SOIC-20-751BJ-01_N (SOIC, 20-Leads, Body 13x7.6mm, Pitch 1.27mm, IPC Medium Density)
footprint ONSC-SOIC-20-751BJ-01_L (SOIC, 20-Leads, Body 13x7.6mm, Pitch 1.27mm, IPC High Density)
footprint ONSC-SOIC-20-751BJ-01_M (SOIC, 20-Leads, Body 13x7.6mm, Pitch 1.27mm, IPC Low Density)
part A pins: 1 RW0 "Wiper Terminal for Potentiometer 0", 2 RL0 "Low Reference Terminal for Potentiometer 0", 3 RH0 "High Reference Terminal for Potentiometer 0", 4 A0 (in) "Device Address, LSB", 5 A2 (in) "Device Address", 6 RW1 "Wiper Terminal for Potentiometer 1", 7 RL1 "Low Reference Terminal for Potentiometer 1", 8 RH1 "High Reference Terminal for Potentiometer 1", 9 SDA (io) "Serial Data Input/Output", 10 GND (power) "Ground", 14 SCL (in) "Bus Serial Clock", 15 A3 (in) "Device Address", 16 A1 (in) "Device Address", 20 VCC (power) "Supply Voltage"
part B pins: 11 NC "No Connect", 12 NC "No Connect", 13 NC "No Connect", 17 NC "No Connect", 18 NC "No Connect", 19 NC "No Connect"

## CAT5221WI10
designator U?
Dual Digital Potentiometer (POT) with 64 Tap and I2C Interface, -40 to 85 degC, 20-Pin SOIC, Pb-Free, Tube; Manufacturer: On Semiconductor; PartNumber: CAT5221WI10; # of Pots: 2; # of Taps: 64; VDD Max (V): 6; DatasheetVersion: Rev. 14; PackageVersion: Rev. O, 12/2008; PackageReference: SOIC-20-751BJ-01; PackageDescription: 20-Pin Small Outline Integrated Circuit, Body 12.8 x 7.5 mm, Pitch 1.27 mm; Supplier 1: Mouser; Supplier Part Number 1: 698-CAT5221WI-10; Control Interface: I2C; Packing: Tube; RoHS: TRUE; Type: Potentiometer; Mounting Technology: Surface Mount; Code_JEDEC: MS-013; ComponentLink1Description: Manufacturer URL; ComponentLink1URL: http://www.onsemi.com/; ComponentLink2Description: Datasheet; ComponentLink2URL: http://www.onsemi.cn/pub_link/Collateral/CAT5221-D.PDF; ComponentLink3Description: Package Specification; ComponentLink3URL: http://www.onsemi.cn/pub_link/Collateral/751BJ.PDF
footprint ONSC-SOIC-20-751BJ-01_N (SOIC, 20-Leads, Body 13x7.6mm, Pitch 1.27mm, IPC Medium Density)
footprint ONSC-SOIC-20-751BJ-01_L (SOIC, 20-Leads, Body 13x7.6mm, Pitch 1.27mm, IPC High Density)
footprint ONSC-SOIC-20-751BJ-01_M (SOIC, 20-Leads, Body 13x7.6mm, Pitch 1.27mm, IPC Low Density)
part A pins: 1 RW0 "Wiper Terminal for Potentiometer 0", 2 RL0 "Low Reference Terminal for Potentiometer 0", 3 RH0 "High Reference Terminal for Potentiometer 0", 4 A0 (in) "Device Address, LSB", 5 A2 (in) "Device Address", 6 RW1 "Wiper Terminal for Potentiometer 1", 7 RL1 "Low Reference Terminal for Potentiometer 1", 8 RH1 "High Reference Terminal for Potentiometer 1", 9 SDA (io) "Serial Data Input/Output", 10 GND (power) "Ground", 14 SCL (in) "Bus Serial Clock", 15 A3 (in) "Device Address", 16 A1 (in) "Device Address", 20 VCC (power) "Supply Voltage"
part B pins: 11 NC "No Connect", 12 NC "No Connect", 13 NC "No Connect", 17 NC "No Connect", 18 NC "No Connect", 19 NC "No Connect"